# EAGLE library part AD8476 (library Lynx components)
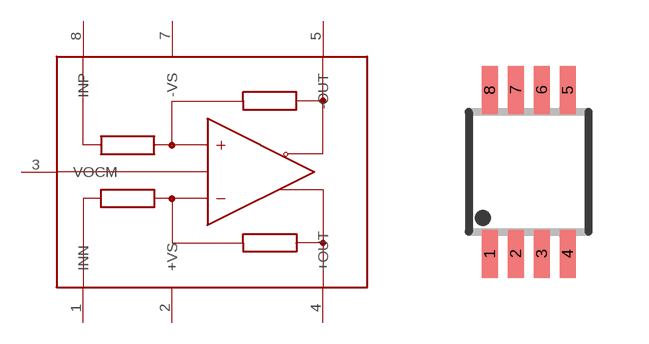
[diagram p6: symbol with the pads of MSOP8; footprint MSOP8]

Designator prefix -

## AD8476  [MSOP8]
1  INN
2  +VS
3  VOCM
4  +OUT
5  -OUT
7  -VS
8  INP

## Footprint MSOP8 (pad centres in mm)
smd 0.4 x 1.2: 1 -0.975,-2.05; 2 -0.325,-2.05; 3 0.325,-2.05; 4 0.975,-2.05; 5 0.975,2.05; 6 0.325,2.05; 7 -0.325,2.05; 8 -0.975,2.05